# Altium schematic symbol library AQ3045-01ETG.SchLib: 2 symbols
Pins are listed as number, name and electrical type; pins without a type are passive.

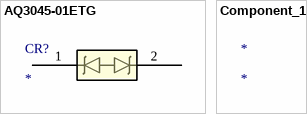
[diagram p0: symbols AQ3045-01ETG to Component_1]

## AQ3045-01ETG
designator CR?
No Description Available; Mfr_Name: Littelfuse Inc; RefDes: RefDes; Type: Type
footprint RTVS_SOD882_LTF
pins: 1, 2

## Component_1
designator *